# EAGLE library part SABERTOOTH2X60 (library RaspberryPi)
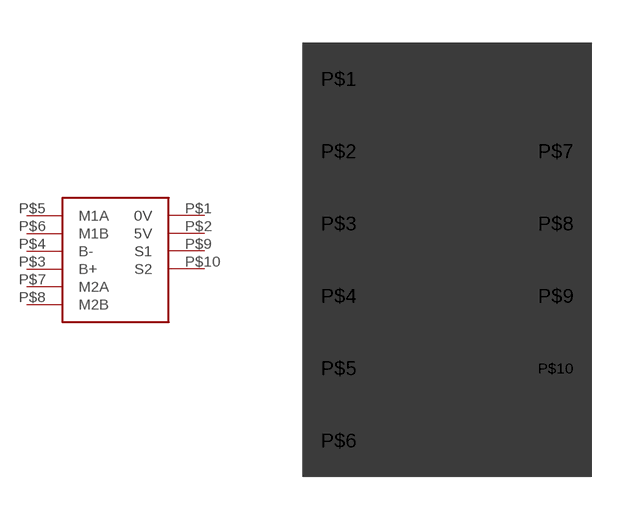
[diagram p5: symbol with the pads of SABERTOOTH2X60; footprint SABERTOOTH2X60]

Designator prefix -

## SABERTOOTH2X60  [SABERTOOTH2X60]
P$1  0V
P$2  5V
P$3  B+
P$4  B-
P$5  M1A
P$6  M1B
P$7  M2A
P$8  M2B
P$9  S1
P$10  S2

## Footprint SABERTOOTH2X60 (pad centres in mm)
drill 0.6 square: P$1 -3.81,6.35; P$2 -3.81,3.81; P$3 -3.81,1.27; P$4 -3.81,-1.27; P$5 -3.81,-3.81; P$6 -3.81,-6.35; P$7 3.81,3.81; P$8 3.81,1.27; P$9 3.81,-1.27; P$10 3.81,-3.81
hole 0.35 at -3.81,-6.35
hole 0.35 at -3.81,-3.81
hole 0.35 at -3.81,-1.27
hole 0.35 at -3.81,1.27
hole 0.35 at -3.81,3.81
hole 0.35 at -3.81,6.35
hole 0.35 at 3.81,3.81
hole 0.35 at 3.81,1.27
hole 0.35 at 3.81,-1.27
hole 0.35 at 3.81,-3.81